# Altium schematic symbol library TBP02R1-381-03BE.SchLib: 1 symbol
Pins are listed as number, name and electrical type; pins without a type are passive.

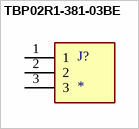
[diagram p0: symbol TBP02R1-381-03BE]

## TBP02R1-381-03BE
designator J?
MF: {'manufacturer': u'CUI Devices'}; MP: TBP02R1-381-03BE; Package: None; Price: None; Value: *; Availability: Unavailable
footprint CUI_TBP02R1-381-03BE
pins: 1, 2, 3